# EAGLE library part JAMMA_JAMMA_TOP (library goJAMMAv02)
JAMMA Connector Top Parts side for these card-edge connenctors HIROSE CR7E-56DA-3.96E HIROSE CR7E-56DB-3.96E KEL 1168-056-009
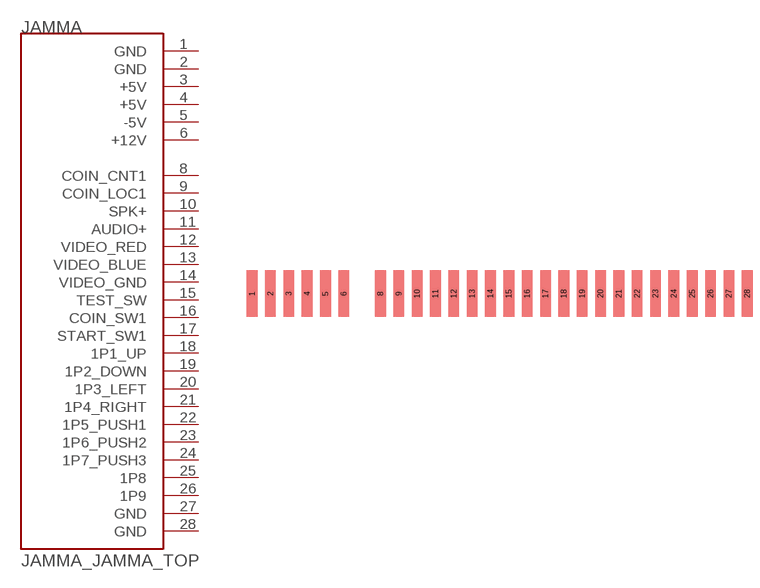
[diagram p2: symbol with the pads of JAMMA_JAMMA_TOP; footprint JAMMA_JAMMA_TOP]

Designator prefix JAMMA

## JAMMA_JAMMA_TOP  [JAMMA_JAMMA_TOP]
1  GND  pwr
2  GND  pwr
3  +5V  pwr
4  +5V  pwr
5  -5V  pwr
6  +12V  pwr
8  COIN_CNT1  out
9  COIN_LOC1  out
10  SPK+  out
11  AUDIO+  out
12  VIDEO_RED  out
13  VIDEO_BLUE  out
14  VIDEO_GND  out
15  TEST_SW  in
16  COIN_SW1  in
17  START_SW1  in
18  1P1_UP  in
19  1P2_DOWN  in
20  1P3_LEFT  in
21  1P4_RIGHT  in
22  1P5_PUSH1  in
23  1P6_PUSH2  in
24  1P7_PUSH3  in
25  1P8  in
26  1P9  in
27  GND  pwr
28  GND  pwr

## Footprint JAMMA_JAMMA_TOP (pad centres in mm)
JAMMA Connector Top Parts side for these card-edge connenctors HIROSE CR7E-56DA-3.96E HIROSE CR7E-56DB-3.96E KEL 1168-056-009
smd 2.3 x 10: 1 -53.46,0; 2 -49.5,0; 3 -45.54,0; 4 -41.58,0; 5 -37.62,0; 6 -33.66,0; 8 -25.74,0; 9 -21.78,0; 10 -17.82,0; 11 -13.86,0; 12 -9.9,0; 13 -5.94,0; 14 -1.98,0; 15 1.98,0; 16 5.94,0; 17 9.9,0; 18 13.86,0; 19 17.82,0; 20 21.78,0; 21 25.74,0; 22 29.7,0; 23 33.66,0; 24 37.62,0; 25 41.58,0; 26 45.54,0; 27 49.5,0; 28 53.46,0